# Altium integrated library ST Comm Trunk Interface.IntLib: 2 symbols
Pins are listed as number, name and electrical type; pins without a type are passive.

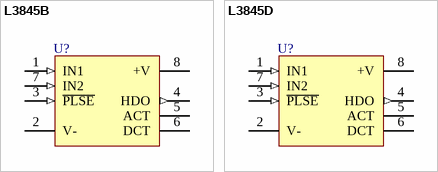
[diagram p0: symbols L3845B to L3845D]

## L3845B
designator U?
Trunk Interface; Published: 24-Aug-2001; LatestRevisionDate: 17-Jul-2002; LatestRevisionNote: Re-released for DXP Platform.; DatasheetDocument: Jun-1996; PackageReference: DIP8; Publisher: Altium Limited; Code_JEDEC: MO-001-AN
footprint DIP8 (DIP; 8 Leads; Row Spacing 7.62 mm; Pitch 2.54 mm)
pins: 1 IN1 (in), 2 V- (power), 3 ~{PLSE} (in), 4 HDO (out), 5 ACT, 6 DCT, 7 IN2 (in), 8 +V (power)

## L3845D
designator U?
Trunk Interface; Published: 24-Aug-2001; LatestRevisionDate: 17-Jul-2002; LatestRevisionNote: Re-released for DXP Platform.; DatasheetDocument: Jun-1996; PackageDocument: Jul-1998; PackageReference: SO8; Publisher: Altium Limited; Code_JEDEC: MS-012-AA; Code_IPC: SO8
footprint SO8 (Small Outline; 8 Leads; Body Width 3.9 mm; Pitch 1.27 mm)
pins: 1 IN1 (in), 2 V- (power), 3 ~{PLSE} (in), 4 HDO (out), 5 ACT, 6 DCT, 7 IN2 (in), 8 +V (power)